# Altium schematic symbol library AMK432BJ477MMT.SchLib: 1 symbol
Pins are listed as number, name and electrical type; pins without a type are passive.

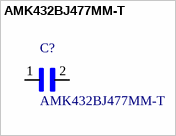
[diagram p0: symbol AMK432BJ477MM-T]

## AMK432BJ477MM-T
designator C?
470ÂµF Â±20% 4V Ceramic Capacitor X5R 1812 _4532 Metric_; MF: Taiyo Yuden; Package: 4532 Taiyo Yuden; Digi-Key_Purchase_URL: https://www.digikey.com/product-detail/en/taiyo-yuden/AMK432BJ477MM-T/587-4368-1-ND/5405565?utm_source=snapeda&utm_medium=aggregator&utm_campaign=symbol; Digi-Key_Part_Number: 587-4368-1-ND; SnapEDA_Link: https://www.snapeda.com/parts/AMK432BJ477MM-T/Taiyo%20Yuden/view-part/3657435/?ref=snap; MP: AMK432BJ477MM-T; Value: *
footprint *CAPC4532X270N
pins: 1, 2